# Altium footprint library GT12MSCBE.PcbLib: 3 footprints
Each footprint in its own frame and in the unit in brackets; x right, y up, seen from the top. Pads: shape width x height; smd on the part's side, far side on the other; paste and mask are expansions set on the pad; w line width, h text height; cw(c..) or ccw(c..) is an arc to the next point about the centre after c.
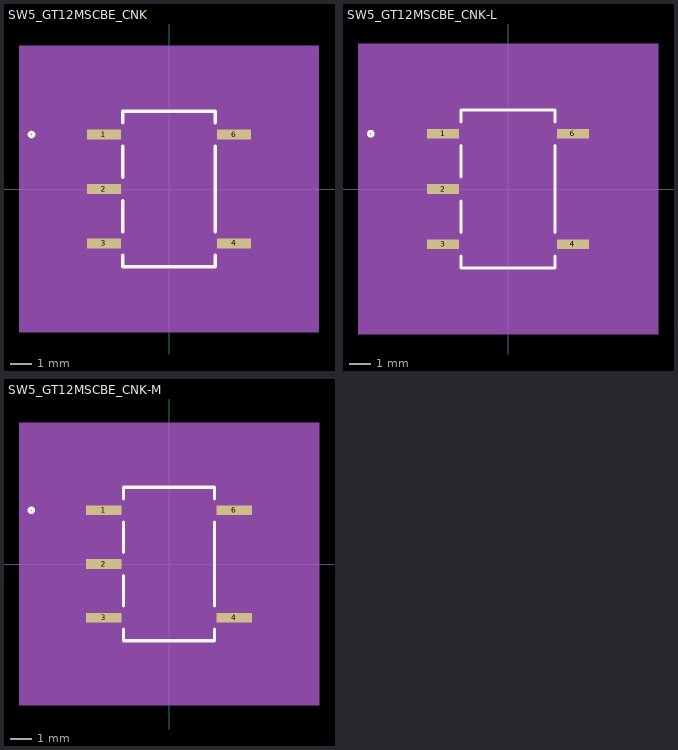
[diagram p0: the footprints below, top view; thin cyan lines are the x and y axes]

## SW5_GT12MSCBE_CNK [mil]
pads (5):
  rect 62x18 smd paste+0 mask+0: 1(-119.5,100) 2(-119.5,0) 3(-119.5,-100) 4(119.5,-100) 6(119.5,100)
Top Overlay:
  circle w6: c-252.5,100 r4
  lines w6: -85,-121.62 -85,-143 85,-143 85,-121.62 ; -85,-78.38 -85,-21.62 ; -85,21.62 -85,78.38 ; -85,121.62 -85,143 85,143 85,121.62 ; 85,-78.38 85,78.38
Mechanical 5:
  region: 275.5,-263 -275.5,-263 -275.5,263 275.5,263
Mechanical 13:
  circle w0: c-88.5,100 r3
  lines w0: -12,138 ccw(c0,138) 12,138
  lines w1: -80,-138 80,-138 80,138 -80,138 -80,-138
Mechanical 15:
  region: -90,-119 -160.5,-119 -160.5,119 -90,119 -90,148 90,148 90,119 160.5,119 160.5,-119 90,-119 90,-148 -90,-148
  lines w6: -160.5,-119 -160.5,119 -90,119 -90,148 90,148 90,119 160.5,119 160.5,-119 90,-119 90,-148 -90,-148 -90,-119 -160.5,-119
3D body "SW5_GT12MSCBE_CNK.step": height 443.11, standoff 0, extent -138.5,-137.99 138.5,137.99

## SW5_GT12MSCBE_CNK-L [mil]
pads (5):
  rect 58x18 smd paste+0 mask+0: 1(-117.5,100) 2(-117.5,0) 3(-117.5,-100) 4(117.5,-100) 6(117.5,100)
Top Overlay:
  circle w6: c-248.5,100 r4
  lines w6: -85,-121.62 -85,-143 85,-143 85,-121.62 ; -85,-78.38 -85,-21.62 ; -85,21.62 -85,78.38 ; -85,121.62 -85,143 85,143 85,121.62 ; 85,-78.38 85,78.38
Mechanical 5:
  region: 271.5,-263 -271.5,-263 -271.5,263 271.5,263
Mechanical 13:
  circle w0: c-88.5,100 r3
  lines w0: -12,138 ccw(c0,138) 12,138
  lines w1: -80,-138 80,-138 80,138 -80,138 -80,-138
Mechanical 15:
  region: -84,-113 -150.5,-113 -150.5,113 -84,113 -84,142 84,142 84,113 150.5,113 150.5,-113 84,-113 84,-142 -84,-142
  lines w6: -150.5,-113 -150.5,113 -84,113 -84,142 84,142 84,113 150.5,113 150.5,-113 84,-113 84,-142 -84,-142 -84,-113 -150.5,-113
3D body "SW5_GT12MSCBE_CNK.step": height 443.11, standoff 0, extent -138.5,-137.99 138.5,137.99

## SW5_GT12MSCBE_CNK-M [mil]
pads (5):
  rect 66x18 smd paste+0 mask+0: 1(-121.5,100) 2(-121.5,0) 3(-121.5,-100) 4(121.5,-100) 6(121.5,100)
Top Overlay:
  circle w6: c-256.5,100 r4
  lines w6: -85,-121.62 -85,-143 85,-143 85,-121.62 ; -85,-78.38 -85,-21.62 ; -85,21.62 -85,78.38 ; -85,121.62 -85,143 85,143 85,121.62 ; 85,-78.38 85,78.38
Mechanical 5:
  region: 279.5,-263 -279.5,-263 -279.5,263 279.5,263
Mechanical 13:
  circle w0: c-88.5,100 r3
  lines w0: -12,138 ccw(c0,138) 12,138
  lines w1: -80,-138 80,-138 80,138 -80,138 -80,-138
Mechanical 15:
  region: -100,-129 -174.5,-129 -174.5,129 -100,129 -100,158 100,158 100,129 174.5,129 174.5,-129 100,-129 100,-158 -100,-158
  lines w6: -174.5,-129 -174.5,129 -100,129 -100,158 100,158 100,129 174.5,129 174.5,-129 100,-129 100,-158 -100,-158 -100,-129 -174.5,-129
3D body "SW5_GT12MSCBE_CNK.step": height 443.11, standoff 0, extent -138.5,-137.99 138.5,137.99